# Altium footprint library IPP60R190P6.PcbLib: 1 footprints
Each footprint in its own frame and in the unit in brackets; x right, y up, seen from the top. Pads: shape width x height; smd on the part's side, far side on the other; paste and mask are expansions set on the pad; w line width, h text height; cw(c..) or ccw(c..) is an arc to the next point about the centre after c.
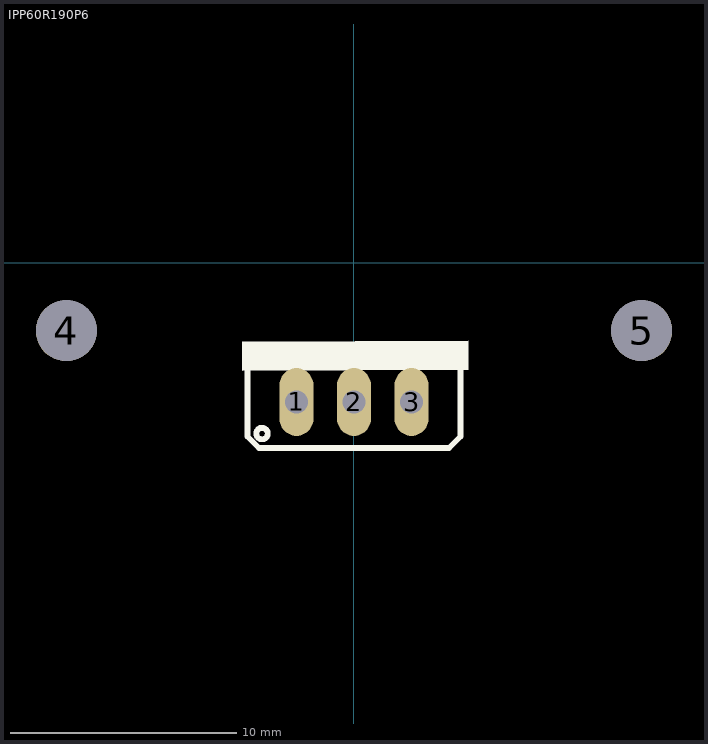
[diagram p0: the footprint, top view; thin cyan lines are the x and y axes]

## IPP60R190P6 [mm] "IPP60R190P6"
height 17
pads (5):
  oval 1.5x3 hole 1: 1(-2.54,-6.15) 2(0,-6.15) 3(2.54,-6.15)
  round 2.7 hole 2.7 unplated: 4(-12.7,-3) 5(12.7,-3)
Top Overlay:
  circle w0.254: c-4.064,-7.547 r0.254
  region: -4.947,-4.783 5.053,-4.738 5.047,-3.438 -4.953,-3.483
  lines w0.254: -4.699,-4.738 -4.699,-7.674 -4.191,-8.182 4.191,-8.182 4.699,-7.674 4.699,-4.738
3D body: height 37.5, standoff 0, extent -15,-12 15,0
3D body "TO-220 3pins short V1.stp": height 19.11, standoff -3, extent -5.942,-7.9 5.942,-3.5